# Altium integrated library BLM21AG121SN1D.IntLib: 1 symbol
Pins are listed as number, name and electrical type; pins without a type are passive.

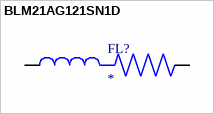
[diagram p0: symbol BLM21AG121SN1D]

## BLM21AG121SN1D
designator FL?
120 Ohms @ 100MHz 1 Ferrite Bead 0805 (2012 Metric) 800mA 100mOhm; MF: Murata; MP: BLM21AG121SN1D; Purchase-URL: https://pricing.snapeda.com/search/part/BLM21AG121SN1D/?ref=eda; SnapEDA_Link: https://www.snapeda.com/parts/BLM21AG121SN1D/Murata/view-part/234115/?ref=snap; Value: *; Check_prices: https://www.snapeda.com/parts/BLM21AG121SN1D/Murata/view-part/234115/?ref=eda; Package: 2012 Murata; Availability: Good; Price: None
footprint BEADC2012X105N
pins: 1, 2